# Altium schematic symbol library Vishay.SchLib: 6 symbols
Pins are listed as number, name and electrical type; pins without a type are passive.

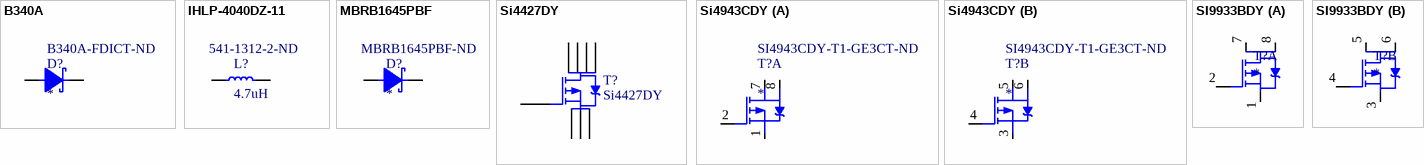
[diagram p0: symbols B340A to SI9933BDY]

## B340A
designator D?  Supplier Part Number 1: B340A-FDICT-ND
High-Current Density Surface Mount Schottky Rectifier; Supplier 1: Digi-Key
footprint DIOM4227X23N (Molded Diode, 2-Leads, Body 4.25x2.67mm, IPC Medium Density)
pins: 1, 2

## IHLP-4040DZ-11
designator L?, comment 4.7uH  Supplier Part Number 1: 541-1312-2-ND
Low Profile, High Current IHLP® Inductors; Supplier 1: Digi-Key; Value: 4.7uH
footprint IHLP-4040DZ-11 (Vishay Low Profile, High Current IHLP Inductor)
pins: 1, 2

## MBRB1645PBF
designator D?  Supplier Part Number 1: MBRB1645PBF-ND
Schottky Rectifier, 16 A; Supplier 1: Digi-Key
footprint DDPAK
pins: 1, 2

## Si4427DY
designator T?
P-Channel 30-V (D-S) MOSFET
footprint SOP127P600X175-8N (SOP, 8-Leads, Body 5,0x4,0mm (max), Pitch 1,27mm, IPC Medium Density)
pins: 1 S, 2 S, 3 S, 4 G, 5 D, 6 D, 7 D, 8 D

## Si4943CDY
designator T?  Supplier Part Number 1: SI4943CDY-T1-GE3CT-ND
Dual P-Channel 20-V (D-S) MOSFET; Supplier 1: Digi-Key
footprint SOIC127P600X175-8L (SOIC, 8-Leads, Body 5,0x4,0mm (max), Pitch 1,27mm, IPC High Density)
part A pins: 1 S1, 2 G1, 7 D1, 8 D1
part B pins: 3 S2, 4 G2, 5 D2, 6 D2

## SI9933BDY
designator T?
Dual P-Channel 2.5-V (G-S) MOSFET
footprint SOP127P600X175-8N (SOP, 8-Leads, Body 5,0x4,0mm (max), Pitch 1,27mm, IPC Medium Density)
part A pins: 1 S1, 2 G1, 7 D1, 8 D1
part B pins: 3 S2, 4 G2, 5 D2, 6 D2